# EAGLE library part ADP2302ARDZ-3.3 (library ADP2302ARDZ-3.3)
Step-Down Regulators
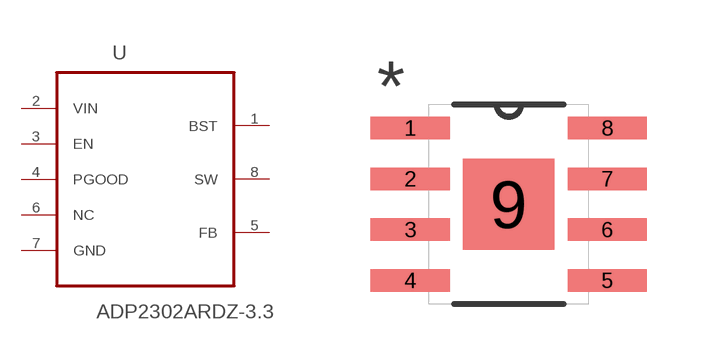
[diagram p0: symbol with the pads of SOIC127P600X175-9N; footprint SOIC127P600X175-9N]

Designator prefix U

## ADP2302ARDZ-3.3 (MPN: ADP2302ARDZ-3.3; OC_FARNELL: 1843644; OC_NEWARK: 12T1262; PACKAGE: SOIC-8; SUPPLIER: Analog Devices)  [SOIC127P600X175-9N]
1  BST  pwr
2  VIN  pwr
3  EN  in
4  PGOOD  out
5  FB  in
6  NC  nc
7  GND  pas
8  SW  out

## Footprint SOIC127P600X175-9N (pad centres in mm)
smd 1.981 x 0.559: 1 -2.464,1.905; 2 -2.464,0.635; 3 -2.464,-0.635; 4 -2.464,-1.905; 5 2.464,-1.905; 6 2.464,-0.635; 7 2.464,0.635; 8 2.464,1.905
smd 2.286 x 2.286: 9 0,0